# EAGLE library part PCA82C250 (library CAN)
The PCA82C250 is the interface between a CAN protocol controller and the physical bus. The device provides differential transmit capability to the bus and differential receive capability to the CAN controller.
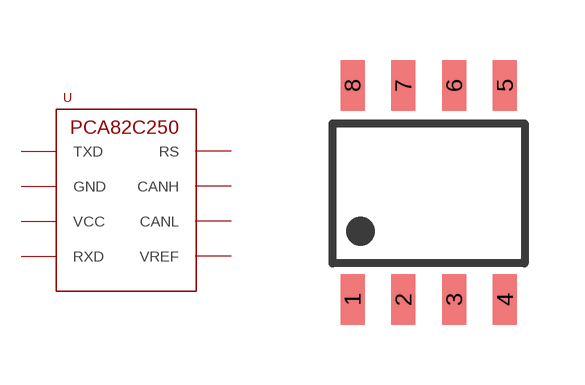
[diagram p0: symbol with the pads of SO8; footprint SO8]

Designator prefix U

## PCA82C250T  [SO8]
1  TXD
2  GND
3  VCC
4  RXD
5  VREF
6  CANL
7  CANH
8  RS

## Footprint SO8 (pad centres in mm)
smd 0.6 x 1.27: 1 0,0; 2 1.27,0; 3 2.54,0; 4 3.81,0; 5 3.81,5.35; 6 2.54,5.35; 7 1.27,5.35; 8 0,5.35